# Altium footprint library SnapEDApcb.PcbLib: 1 footprints
Each footprint in its own frame and in the unit in brackets; x right, y up, seen from the top. Pads: shape width x height; smd on the part's side, far side on the other; paste and mask are expansions set on the pad; w line width, h text height; cw(c..) or ccw(c..) is an arc to the next point about the centre after c.
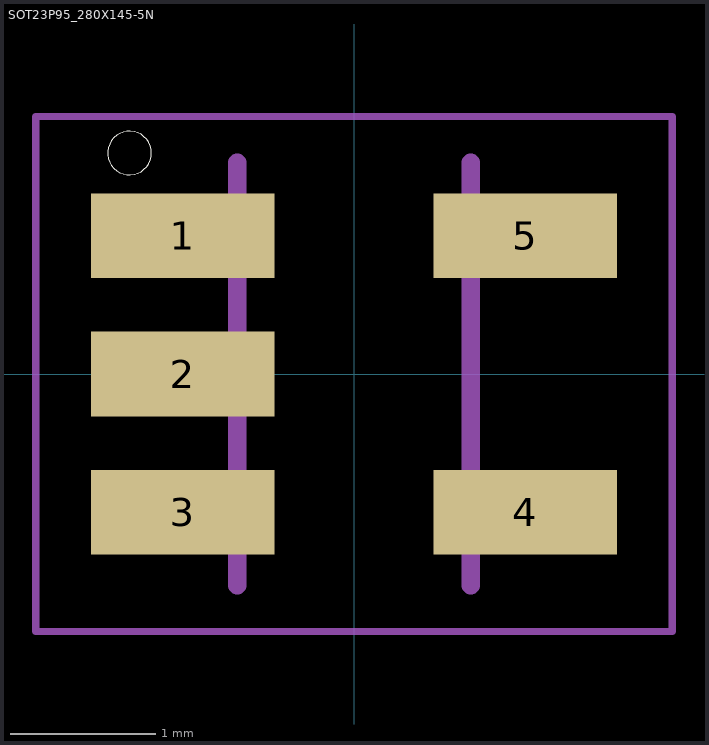
[diagram p0: the footprint, top view; thin cyan lines are the x and y axes]

## SOT23P95_280X145-5N [mm]
pads (5):
  rect 1.26x0.58 smd: 1(-1.175,0.95) 2(-1.175,0) 3(-1.175,-0.95) 4(1.175,-0.95) 5(1.175,0.95)
Top Overlay:
  circle w0: c-1.54,1.516 r0.15
Mechanical 13:
  lines w0.127: -0.8,-1.45 -0.8,1.45 ; 0.8,-1.45 0.8,1.45
Mechanical 15:
  lines w0.05: -2.183,-1.766 -2.183,1.766 2.183,1.766 2.183,-1.766 -2.183,-1.766
3D body "STLQ015M30R.STEP": height 1.45, standoff 0, extent -1.4,-1.45 1.4,1.45